# EAGLE library part RASPBERRYPI_ZERO (library milador)
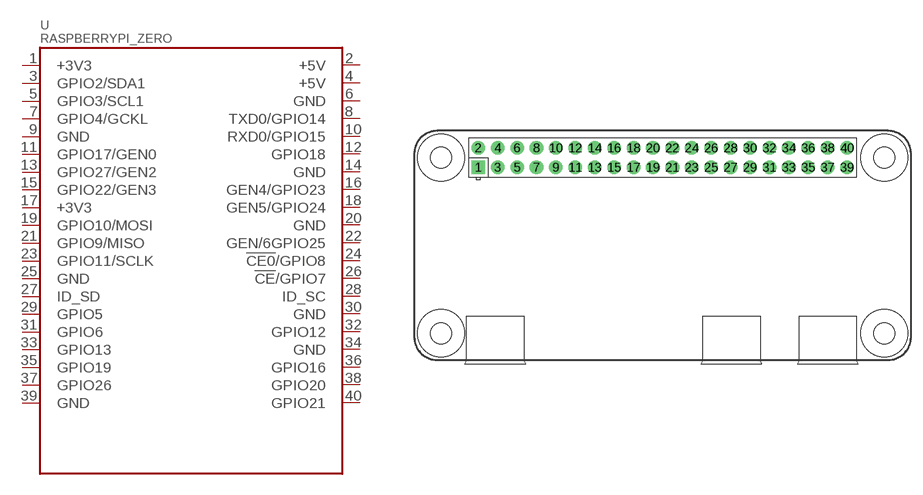
[diagram p2: symbol with the pads of RASPBERRYPI_ZERO; footprint RASPBERRYPI_ZERO]

Designator prefix -

## RASPBERRYPI_ZERO  [RASPBERRYPI_ZERO]
1  +3V3  sup
2  +5V  sup
3  GPIO2/SDA1
4  +5V  sup
5  GPIO3/SCL1
6  GND  sup
7  GPIO4/GCKL
8  TXD0/GPIO14
9  GND  sup
10  RXD0/GPIO15
11  GPIO17/GEN0
12  GPIO18
13  GPIO27/GEN2
14  GND  sup
15  GPIO22/GEN3
16  GEN4/GPIO23
17  +3V3  sup
18  GEN5/GPIO24
19  GPIO10/MOSI
20  GND  sup
21  GPIO9/MISO
22  GEN/6GPIO25
23  GPIO11/SCLK
24  !CE0!/GPIO8
25  GND  sup
26  !CE!/GPIO7
27  ID_SD
28  ID_SC
29  GPIO5
30  GND  sup
31  GPIO6
32  GPIO12
33  GPIO13
34  GND  sup
35  GPIO19
36  GPIO16
37  GPIO26
38  GPIO20
39  GND  sup
40  GPIO21

## Footprint RASPBERRYPI_ZERO (pad centres in mm)
Raspberry Pi board model B+, full outline with position of big connectors & drill holes
drill 1 pad 1.778 square: 1 8.37,25.23
drill 1 pad 1.778: 2 8.37,27.77; 3 10.91,25.23; 4 10.91,27.77; 5 13.45,25.23; 6 13.45,27.77; 7 15.99,25.23; 8 15.99,27.77; 9 18.53,25.23; 10 18.53,27.77; 11 21.07,25.23; 12 21.07,27.77; 13 23.61,25.23; 14 23.61,27.77; 15 26.15,25.23; 16 26.15,27.77; 17 28.69,25.23; 18 28.69,27.77; 19 31.23,25.23; 20 31.23,27.77; 21 33.77,25.23; 22 33.77,27.77; 23 36.31,25.23; 24 36.31,27.77; 25 38.85,25.23; 26 38.85,27.77; 27 41.39,25.23; 28 41.39,27.77; 29 43.93,25.23; 30 43.93,27.77; 31 46.47,25.23; 32 46.47,27.77; 33 49.01,25.23; 34 49.01,27.77; 35 51.55,25.23; 36 51.55,27.77; 37 54.09,25.23; 38 54.09,27.77; 39 56.63,25.23; 40 56.63,27.77
hole 2.75 at 3.5,3.5
hole 2.75 at 3.5,26.5
hole 2.75 at 61.5,3.5
hole 2.75 at 61.5,26.5